# Altium schematic symbol library ESP32_SCH.SchLib: 50 symbols (part 1 of 2)
Pins are listed as number, name and electrical type; pins without a type are passive.

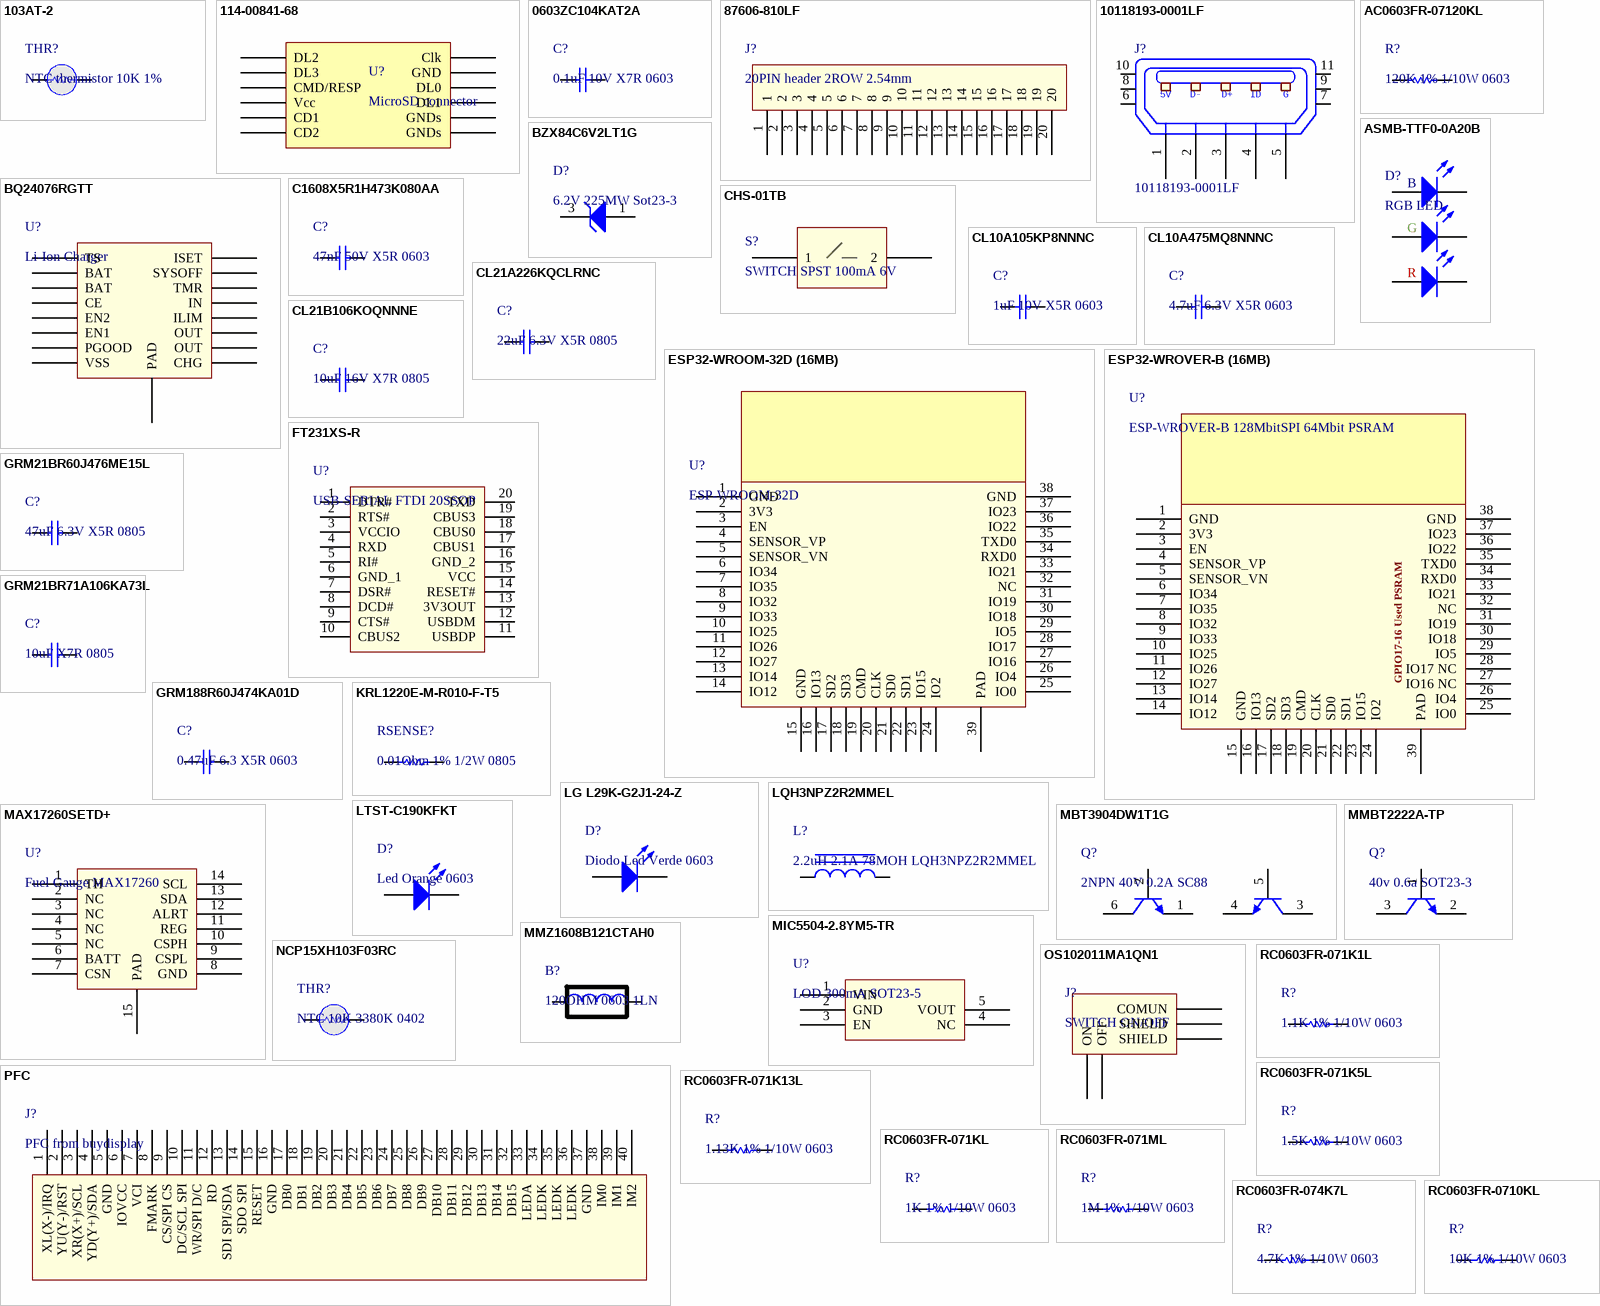
[diagram p0: symbols 103AT-2 to RC0603FR-0710KL]

## 103AT-2
designator THR?, comment NTC thermistor 10K 1%
Termistores NTC 10kohm 1%; Manufacturer: Semitec; Manufacturer Part Number: 103AT-2; Altura: 2.4 mm; Longitud: 17 mm; Empaquetado: Bulk; Resistencia: 10 kOhms; Serie: AT; Estilo de terminación: Radial; Anchura: 3.7 mm; CNHTS: 8533400000; Espaciado del plomo: 2.54 mm; Temperatura operativa máxima: + 110 C; Temperatura operativa mínima: - 50 C; MXHTS: 85334002; Tipo de producto: NTC Thermistors; Cantidad estándar de paquetes: 200; Subcategoría: Thermistors; TARIC: 8533401000; Supplier 1: Mouser; RoHS: RoHS Compliant; Category: Termistores NTC; Stock 1: 43480; Pricing 1: 1=2.26, 10=2.07, 100=1.68, 200=0.755, 500=0.664, 1000=0.423, 2000=0.356, 5000=0.347, 10000=0.337 (EUR); Tolerancia: 1 %; Tipo: NTC; Marca: Semitec; HTS Code: 8533408070; Fabricante: Semitec; RoHS - Mouser: Y; Minimum Order Quantity: 1; Reeling: False; ComponentLink1URL: http://www.mouser.com/datasheet/2/362/semitec_atthermistor-1202913.pdf; ComponentLink1Description: http://www.mouser.com/datasheet/2/362/semitec_atthermistor-1202913.pdf; Supplier Part Number 1: 954-103AT-2
footprint 103AT2
pins: 1, 2

## 114-00841-68
designator U?, comment MicroSD connector
CONN MICRO SD CARD PUSH-PULL R/A; Manufacturer: Amphenol Commercial Products; Manufacturer Part Number: 114-00841-68; Card Type: Secure Digital - microSD™; Number of Positions: 10 (8 + 2); Insertion, Removal Method: Push In, Pull Out; Supplier 1: Digi-Key; RoHS: RoHS Compliant; Category: Connectors, Interconnects; Stock 1: 16865; Pricing 1: 1=1.22, 10=1.1, 25=1.0332, 50=0.9882, 100=0.9432, 250=0.85344, 500=0.78606 (EUR); Packaging: Cut Tape (CT); Part Status: Active; Connector Type: Connector; Ejector Side: -; Mounting Type: Surface Mount, Right Angle; Features: Switch; Height Above Board: 0.061" (1.55mm); Mounting Feature: Normal, Standard - Top; Contact Finish: Gold; Contact Finish Thickness: 15.0µin (0.38µm); ComponentLink1URL: https://www.amphenolcanada.com/ProductSearch/drawings/AC/1140084168.pdf; ComponentLink1Description: https://www.amphenolcanada.com/ProductSearch/drawings/AC/1140084168.pdf; Supplier Part Number 1: 114-00841-68-1-ND
footprint 114-00841-68 (SD Connector)
pins: 1 DL2, 2 DL3, 3 CMD/RESP, 4 Vcc, 5 Clk, 6 GND, 7 DL0, 8 DL1, 9 CD1, 10 CD2, 11 GNDs, 12 GNDs

## 0603ZC104KAT2A
designator C?, comment 0.1uF 10V X7R 0603
CAP CER 0.1UF 10V X7R 0603; Manufacturer: AVX Corporation; Manufacturer Part Number: 0603ZC104KAT2A; Tolerance: ±10%; Notification: Current market demand for these product types have resulted in fluctuating and extending lead times. Lead times may differ.; Supplier 1: Digi-Key; RoHS: RoHS Compliant; Category: Capacitors; Stock 1: 40000; Pricing 1: 1=0.13, 10=0.094, 100=0.0443, 500=0.03104, 1000=0.0257 (GBP); Packaging: Cut Tape (CT); Part Status: Active; Voltage - Rated: 10V; Temperature Coefficient: X7R; Operating Temperature: -55°C ~ 125°C; Features: -; Ratings: -; Applications: General Purpose; Failure Rate: -; Mounting Type: Surface Mount, MLCC; Package / Case: 0603 (1608 Metric); Size / Dimension: 0.063" L x 0.032" W (1.60mm x 0.81mm); Height - Seated (Max): -; Thickness (Max): 0.035" (0.90mm); Lead Spacing: -; Lead Style: -; ComponentLink1URL: http://datasheets.avx.com/X7RDielectric.pdf; ComponentLink1Description: http://datasheets.avx.com/X7RDielectric.pdf; Supplier Part Number 1: 478-7939-1-ND
footprint C 0603/1608
pins: 1, 2

## 87606-810LF
designator J?, comment 20PIN header 2ROW 2.54mm
CONN RCPT 20POS 0.1 GOLD PCB; Manufacturer: Amphenol ICC (FCI); Manufacturer Part Number: 87606-810LF; Connector Type: Receptacle; Style: Board to Board; Number of Positions: 20; Number of Positions Loaded: All; Pitch - Mating: 0.100" (2.54mm); Contact Length - Post: 0.114" (2.90mm); Material Flammability Rating: UL94 V-0; Supplier 1: Digi-Key; RoHS: RoHS Compliant; Category: Connectors, Interconnects; Stock 1: 3223; Pricing 1: 1=0.98, 23=0.86826, 115=0.74896, 506=0.61281, 1012=0.54472, 5014=0.47663, 10005=0.4528 (GBP); Packaging: Tube; Part Status: Active; Contact Type: Female Socket; Row Spacing - Mating: 0.100" (2.54mm); Mounting Type: Through Hole; Termination: Solder; Fastening Type: Push-Pull; Contact Finish - Mating: Gold; Contact Finish Thickness - Mating: 15.0µin (0.38µm); Insulation Color: Blue; Insulation Height: 0.335" (8.51mm); Operating Temperature: -; Contact Finish - Post: Tin; Mated Stacking Heights: -; Ingress Protection: -; Features: -; Current Rating: -; Voltage Rating: -; Applications: Automotive, General Purpose, Industrial, Telecommunications; Insulation Material: Thermoplastic, Glass Filled; Contact Shape: Square; Contact Material: Phosphor Bronze; Contact Finish Thickness - Post: 78.7µin (2.00µm); ComponentLink1URL: https://cdn.amphenol-icc.com/media/wysiwyg/files/drawing/87606.pdf; ComponentLink1Description: https://cdn.amphenol-icc.com/media/wysiwyg/files/drawing/87606.pdf; Supplier Part Number 1: 609-5148-ND
footprint Header 10x2 254mm
pins: 1, 2, 3, 4, 5, 6, 7, 8, 9, 10, 11, 12, 13, 14, 15, 16, 17, 18, 19, 20

## 10118193-0001LF
designator J?
CONN USB MICRO B RECPT SMT R/A; Manufacturer: FCI; Connector Type: USB - micro B; Number of Contacts: 5; Gender: Receptacle; Specifications: USB 2.0; .Creator: MM; .Checked PCB: RF; Supplier 1: Digi-Key; Manufacturer Part Number: 10118193-0001LF; RoHS: RoHS Compliant; Category: Connectors, Interconnects; Stock 1: 28642; Pricing 1: 1=0.46, 10=0.433, 25=0.3712, 50=0.3156, 100=0.3032, 250=0.27224, 500=0.25988 (USD); Packaging: Cut Tape (CT); Mounting Type: Surface Mount, Right Angle, Horizontal; Features: Shielded, Solder Retention; Ingress Protection: -; ComponentLink1URL: http://portal.fciconnect.com/Comergent//fci/drawing/10118193.pdf; ComponentLink1Description: http://portal.fciconnect.com/Comergent//fci/drawing/10118193.pdf; Supplier Part Number 1: 609-4616-1-ND; .Checked SCH: MM
footprint 10118193
pins: 1 P1, 2 P2, 3 P3, 4 P4, 5 P5, 6, 7, 8, 9, 10, 11
text: 5V; D-; D+; ID; G

## AC0603FR-07120KL
designator R?, comment 120K 1% 1/10W 0603
RES SMD 120K OHM 1% 1/10W 0603; Manufacturer: Yageo; Manufacturer Part Number: AC0603FR-07120KL; Power (Watts): 0.1W, 1/10W; Temperature Coefficient: ±100ppm/°C; Supplier 1: Digi-Key; RoHS: RoHS Compliant; Category: Resistors; Stock 1: 51886; Pricing 1: 1=0.08, 10=0.023, 100=0.0093, 1000=0.00416, 2500=0.00361 (GBP); Packaging: Cut Tape (CT); Part Status: Active; Tolerance: ±1%; Composition: Thick Film; Features: Automotive AEC-Q200, Moisture Resistant; Operating Temperature: -55°C ~ 155°C; Package / Case: 0603 (1608 Metric); Supplier Device Package: 0603; Size / Dimension: 0.063" L x 0.031" W (1.60mm x 0.80mm); Height - Seated (Max): 0.022" (0.55mm); Failure Rate: -; ComponentLink1URL: http://www.yageo.com/NewPortal/yageodocoutput?fileName=/pdf/R-Chip/PYu-AC_51_RoHS_L_6.pdf; ComponentLink1Description: http://www.yageo.com/NewPortal/yageodocoutput?fileName=/pdf/R-Chip/PYu-AC_51_RoHS_L_6.pdf; Supplier Part Number 1: YAG3562CT-ND
footprint R 0603/1608
pins: 1, 2

## ASMB-TTF0-0A20B
designator D?, comment RGB LED
LED RGB DIFFUSED 6PLCC SMD; Manufacturer: Broadcom Avago; Manufacturer Part Number: ASMB-TTF0-0A20B; Supplier 1: Mouser; Stock 1: 76070; Pricing 1: 1=0.32, 10=0.275, 50=0.275, 100=0.182, 1000=0.134, 10000=0.115 (USD); Supplier Part Number 1: 630-ASMB-TTF0-0A20B
footprint PLCC-6
pins: 1 A, 2 K, 3 A, 4 K, 5 A, 6 K
text: B; G; R

## BQ24076RGTT
designator U?, comment Li-Ion Charger
LI-ION BATTERY CHARGER AND POWER; Supplier 1: Digi-Key; Supplier Part Number 1: 296-47528-6-ND
footprint VQFN16 (4x4mm) (QFN, 16-Leads, Body 4,00x4,00mm,)
pins: 1 TS, 2 BAT, 3 BAT, 4 CE, 5 EN2, 6 EN1, 7 PGOOD, 8 VSS, 9 CHG, 10 OUT, 11 OUT, 12 ILIM, 13 IN, 14 TMR, 15 SYSOFF, 16 ISET, 17 PAD

## BZX84C6V2LT1G
designator D?, comment 6.2V 225MW Sot23-3
DIODE ZENER 6.2V 225MW SOT23-3; Manufacturer: ON Semiconductor; Manufacturer Part Number: BZX84C6V2LT1G; Tolerance: ±6%; Supplier 1: Digi-Key; RoHS: RoHS Compliant; Category: Discrete Semiconductor Products; Stock 1: 133999; Pricing 1: 1=0.12, 10=0.106, 100=0.0578, 500=0.03558, 1000=0.02426 (GBP); Packaging: Cut Tape (CT); Part Status: Active; Operating Temperature: -65°C ~ 150°C (TJ); Mounting Type: Surface Mount; Package / Case: TO-236-3, SC-59, SOT-23-3; Supplier Device Package: SOT-23-3 (TO-236); Base Part Number: BZX84C6V2; ComponentLink1URL: https://www.onsemi.com/pub/Collateral/BZX84C2V4LT1-D.PDF; ComponentLink1Description: https://www.onsemi.com/pub/Collateral/BZX84C2V4LT1-D.PDF; Supplier Part Number 1: BZX84C6V2LT1GOSCT-ND
footprint SOT-23-3 (SOT23, 3-Leads, Body 2.92x1.3mm, Pitch 0.95mm)
pins: 1 A, 3 K

## C1608X5R1H473K080AA
designator C?, comment 47nF 50V X5R 0603
CAP CER 0.047UF 50V X5R 0603; Manufacturer: TDK Corporation; Manufacturer Part Number: C1608X5R1H473K080AA; Tolerance: ±10%; Notification: Current market demand for these product types have resulted in fluctuating and extending lead times. Lead times may differ.; Supplier 1: Digi-Key; RoHS: RoHS Compliant; Category: Capacitors; Stock 1: 247; Pricing 1: 1=0.08, 10=0.058, 100=0.026, 500=0.01862, 1000=0.01463 (GBP); Packaging: Cut Tape (CT); Part Status: Not For New Designs; Voltage - Rated: 50V; Temperature Coefficient: X5R; Operating Temperature: -55°C ~ 85°C; Features: Low ESL; Ratings: -; Applications: General Purpose; Failure Rate: -; Mounting Type: Surface Mount, MLCC; Package / Case: 0603 (1608 Metric); Size / Dimension: 0.063" L x 0.031" W (1.60mm x 0.80mm); Height - Seated (Max): -; Thickness (Max): 0.035" (0.90mm); Lead Spacing: -; Lead Style: -; ComponentLink1URL: https://product.tdk.com/info/en/catalog/datasheets/mlcc_commercial_general_en.pdf; ComponentLink1Description: https://product.tdk.com/info/en/catalog/datasheets/mlcc_commercial_general_en.pdf; Supplier Part Number 1: 445-14155-1-ND
footprint C 0603/1608
pins: 1, 2

## CHS-01TB
designator S?, comment SWITCH SPST 100mA 6V
SWITCH SLIDE DIP SPST 100MA 6V; Supplier 1: Digi-Key; Supplier Part Number 1: 563-1004-6-ND
footprint CHS-01TB
pins: 1, 2

## CL10A105KP8NNNC
designator C?, comment 1uF 10V X5R 0603
CAP CER 1UF 10V X5R 0603; Manufacturer: Samsung Electro-Mechanics; Manufacturer Part Number: CL10A105KP8NNNC; Tolerance: ±10%; Notification: Current market demand for these product types have resulted in fluctuating and extending lead times. Lead times may differ.; Supplier 1: Digi-Key; RoHS: RoHS Compliant; Category: Capacitors; Stock 1: 40000; Pricing 1: 1=0.08, 10=0.03, 100=0.0132, 500=0.00942, 1000=0.00741 (GBP); Packaging: Cut Tape (CT); Part Status: Active; Voltage - Rated: 10V; Temperature Coefficient: X5R; Operating Temperature: -55°C ~ 85°C; Features: -; Ratings: -; Applications: General Purpose; Mounting Type: Surface Mount, MLCC; Package / Case: 0603 (1608 Metric); Size / Dimension: 0.063" L x 0.031" W (1.60mm x 0.80mm); Height - Seated (Max): -; Thickness (Max): 0.035" (0.90mm); Lead Spacing: -; Lead Style: -; ComponentLink1URL: http://www.samsungsem.com/kr/support/product-search/mlcc/CL10A105KP8NNNC.jsp; ComponentLink1Description: http://www.samsungsem.com/kr/support/product-search/mlcc/CL10A105KP8NNNC.jsp; Supplier Part Number 1: 1276-1182-1-ND
footprint C 0603/1608
pins: 1, 2

## CL10A475MQ8NNNC
designator C?, comment 4.7uF 6.3V X5R 0603
CAP CER 4.7UF 6.3V X5R 0603; Manufacturer: Samsung Electro-Mechanics; Manufacturer Part Number: CL10A475MQ8NNNC; Tolerance: ±20%; Notification: Current market demand for these product types have resulted in fluctuating and extending lead times. Lead times may differ.; Supplier 1: Digi-Key; RoHS: RoHS Compliant; Category: Capacitors; Stock 1: 40000; Pricing 1: 1=0.08, 10=0.051, 100=0.0228, 500=0.01632, 1000=0.01282 (GBP); Packaging: Cut Tape (CT); Part Status: Active; Voltage - Rated: 6.3V; Temperature Coefficient: X5R; Operating Temperature: -55°C ~ 85°C; Features: -; Ratings: -; Applications: General Purpose; Mounting Type: Surface Mount, MLCC; Package / Case: 0603 (1608 Metric); Size / Dimension: 0.063" L x 0.031" W (1.60mm x 0.80mm); Height - Seated (Max): -; Thickness (Max): 0.035" (0.90mm); Lead Spacing: -; Lead Style: -; ComponentLink1URL: http://www.samsungsem.com/kr/support/product-search/mlcc/CL10A475MQ8NNNC.jsp; ComponentLink1Description: http://www.samsungsem.com/kr/support/product-search/mlcc/CL10A475MQ8NNNC.jsp; Supplier Part Number 1: 1276-1907-1-ND
footprint C 0603/1608
pins: 1, 2

## CL21A226KQCLRNC
designator C?, comment 22uF 6.3V X5R 0805
CAP CER 22UF 6.3V X5R 0805; Manufacturer: Samsung Electro-Mechanics; Manufacturer Part Number: CL21A226KQCLRNC; Tolerance: ±10%; Notification: Current market demand for these product types have resulted in fluctuating and extending lead times. Lead times may differ.; Supplier 1: Digi-Key; RoHS: RoHS Compliant; Category: Capacitors; Stock 1: 1225; Pricing 1: 1=0.13, 10=0.098, 100=0.0459, 500=0.03216, 1000=0.02663 (GBP); Packaging: Cut Tape (CT); Part Status: Active; Voltage - Rated: 6.3V; Temperature Coefficient: X5R; Operating Temperature: -55°C ~ 85°C; Features: Low Profile; Ratings: -; Applications: General Purpose; Mounting Type: Surface Mount, MLCC; Package / Case: 0805 (2012 Metric); Size / Dimension: 0.079" L x 0.049" W (2.00mm x 1.25mm); Height - Seated (Max): -; Thickness (Max): 0.037" (0.95mm); Lead Spacing: -; Lead Style: -; ComponentLink1URL: http://www.samsungsem.com/kr/support/product-search/mlcc/CL21A226KQCLRNC.jsp; ComponentLink1Description: http://www.samsungsem.com/kr/support/product-search/mlcc/CL21A226KQCLRNC.jsp; Supplier Part Number 1: 1276-6687-1-ND
footprint C 0805/2012
pins: 1, 2

## CL21B106KOQNNNE
designator C?, comment 10uF 16V X7R 0805
CAP CER 10UF 16V X7R 0805; Manufacturer: Samsung Electro-Mechanics; Manufacturer Part Number: CL21B106KOQNNNE; Tolerance: ±10%; Notification: Current market demand for these product types have resulted in fluctuating and extending lead times. Lead times may differ.; Supplier 1: Digi-Key; RoHS: RoHS Compliant; Category: Capacitors; Stock 1: 20000; Pricing 1: 1=0.24, 10=0.163, 100=0.0923, 500=0.06514, 1000=0.057 (GBP); Packaging: Cut Tape (CT); Part Status: Active; Voltage - Rated: 16V; Temperature Coefficient: X7R; Operating Temperature: -55°C ~ 125°C; Features: -; Ratings: -; Applications: General Purpose; Mounting Type: Surface Mount, MLCC; Package / Case: 0805 (2012 Metric); Size / Dimension: 0.079" L x 0.049" W (2.00mm x 1.25mm); Height - Seated (Max): -; Thickness (Max): 0.055" (1.40mm); Lead Spacing: -; Lead Style: -; ComponentLink1URL: http://www.samsungsem.com/kr/support/product-search/mlcc/CL21B106KOQNNNE.jsp; ComponentLink1Description: http://www.samsungsem.com/kr/support/product-search/mlcc/CL21B106KOQNNNE.jsp; Supplier Part Number 1: 1276-2872-1-ND
footprint C 0805/2012
pins: 1, 2

## ESP32-WROOM-32D (16MB)
designator U?, comment ESP-WROOM-32D
WIFI MODULE 128MBITS SPI FLASH; Manufacturer: Espressif Systems; Manufacturer Part Number: ESP32-WROOM-32D (16MB); Utilized IC / Part: ESP32-D0WD; RF Family/Standard: Bluetooth, WiFi; Protocol: 802.11b/g/n, Bluetooth v4.2 + EDR, Class 1, 2 and 3; Modulation: CCK, DSSS, OFDM; Frequency: 2.4GHz ~ 2.5GHz; Data Rate: 150Mbps; Power - Output: 20.5dBm; Sensitivity: -98dBm; Serial Interfaces: GPIO, I²C, I²S, PWM, SDIO, SPI, UART; Antenna Type: Integrated, Trace; Memory Size: 448kB ROM, 536kB SRAM; Voltage - Supply: 2.7 V ~ 3.6 V; Supplier 1: Digi-Key; RoHS: RoHS Compliant; Category: RF/IF and RFID; Stock 1: 450; Pricing 1: 1=6.14, 10=5.634, 25=5.122, 100=4.6099, 250=4.22572 (GBP); Packaging: Digi-Reel®; Part Status: Active; Current - Receiving: -; Current - Transmitting: -; Mounting Type: Surface Mount; Operating Temperature: -40°C ~ 85°C; Package / Case: 38-SMD Module; ComponentLink1URL: https://www.espressif.com/sites/default/files/documentation/esp32-wroom-32d_esp32-wroom-32u_datasheet_en.pdf; ComponentLink1Description: https://www.espressif.com/sites/default/files/documentation/esp32-wroom-32d_esp32-wroom-32u_datasheet_en.pdf; Supplier Part Number 1: 1904-1025-6-ND
footprint ESP32WROOM32D
pins: 1 GND, 2 3V3, 3 EN, 4 SENSOR_VP, 5 SENSOR_VN, 6 IO34, 7 IO35, 8 IO32, 9 IO33, 10 IO25, 11 IO26, 12 IO27, 13 IO14, 14 IO12, 15 GND, 16 IO13, 17 SD2, 18 SD3, 19 CMD, 20 CLK, 21 SD0, 22 SD1, 23 IO15, 24 IO2, 25 IO0, 26 IO4, 27 IO16, 28 IO17, 29 IO5, 30 IO18, 31 IO19, 32 NC, 33 IO21, 34 RXD0, 35 TXD0, 36 IO22, 37 IO23, 38 GND, 39 PAD

## ESP32-WROVER-B (16MB)
designator U?, comment ESP-WROVER-B 128MbitSPI 64Mbit PSRAM
Módulos WiFi (802.11) SMD Module, ESP32-D0WD, 64Mbits PSRAM, 128Mbits SPI flash, PCB Antenna; Manufacturer: Espressif Systems; Manufacturer Part Number: ESP32-WROVER-B (16MB); Frecuencia de datos: 150 Mb/s; Frecuencia: 2.4 GHz to 2.5 GHz; Energía de salida: 18.5 dBm; Serie: ESP32; Tipo de interfaz: Serial; CNHTS: 8517709000; Fabricante: Espressif; Temperatura operativa máxima: + 65 C; Temperatura operativa mínima: - 40 C; Voltaje operativo de suministro: 2.7 V to 3.6 V; Tipo de producto: WiFi Modules; Protocolo aceptado: 802.11 b/g/n, Bluetooth; Cantidad estándar de paquetes: 650; Subcategoría: Wireless & RF Modules; Product Status: New Product; Supplier 1: Mouser; Category: Módulos WiFi (802.11); Stock 1: 0; Pricing 1: 1=4.37 (EUR); Dimensiones: 18 mm x 31.4 mm x 3.3 mm; Marca: Espressif Systems; HTS Code: 8517620090; Minimum Order Quantity: 1; Reeling: False; ComponentLink1URL: http://www.mouser.com/datasheet/2/891/esp32-wrover-b_datasheet_en-1384674.pdf; ComponentLink1Description: http://www.mouser.com/datasheet/2/891/esp32-wrover-b_datasheet_en-1384674.pdf; Supplier Part Number 1: 356-ESP32-WROB(16MB)
footprint XCVR_ESP32-WROVER
pins: 1 GND, 2 3V3, 3 EN, 4 SENSOR_VP, 5 SENSOR_VN, 6 IO34, 7 IO35, 8 IO32, 9 IO33, 10 IO25, 11 IO26, 12 IO27, 13 IO14, 14 IO12, 15 GND, 16 IO13, 17 SD2, 18 SD3, 19 CMD, 20 CLK, 21 SD0, 22 SD1, 23 IO15, 24 IO2, 25 IO0, 26 IO4, 27 IO16 NC, 28 IO17 NC, 29 IO5, 30 IO18, 31 IO19, 32 NC, 33 IO21, 34 RXD0, 35 TXD0, 36 IO22, 37 IO23, 38 GND, 39 PAD
text: GPIO17-16 Used PSRAM

## FT231XS-R
designator U?, comment USB-SERIAL FTDI 20SSOP
IC USB SERIAL FULL UART 20SSOP; Manufacturer: FTDI, Future Technology Devices International Ltd; Manufacturer Part Number: FT231XS-R; Function: Bridge, USB to UART; Standards: USB 2.0; Voltage - Supply: 3.3 V ~ 5 V; Current - Supply: 8mA; Supplier 1: Digi-Key; RoHS: RoHS Compliant; Category: Integrated Circuits (ICs); Stock 1: 37852; Pricing 1: 1=1.67, 25=1.6128, 100=1.5579, 250=1.40052, 500=1.2589 (GBP); Packaging: Cut Tape (CT); Part Status: Active; Protocol: USB; Interface: UART; Operating Temperature: -40°C ~ 85°C; Package / Case: 20-SSOP (0.154", 3.90mm Width); Supplier Device Package: 20-SSOP; ComponentLink1URL: http://www.ftdichip.com/Support/Documents/DataSheets/ICs/DS_FT231X.pdf; ComponentLink1Description: http://www.ftdichip.com/Support/Documents/DataSheets/ICs/DS_FT231X.pdf; Supplier Part Number 1: 768-1129-1-ND
footprint SOP64P599X175-20N
pins: 1 DTR#, 2 RTS#, 3 VCCIO (power), 4 RXD, 5 RI#, 6 GND_1, 7 DSR#, 8 DCD#, 9 CTS#, 10 CBUS2, 11 USBDP, 12 USBDM, 13 3V3OUT, 14 RESET#, 15 VCC (power), 16 GND_2, 17 CBUS1, 18 CBUS0, 19 CBUS3, 20 TXD

## GRM21BR60J476ME15L
designator C?, comment 47uF 6.3V X5R 0805
CAP CER 47UF 6.3V X5R 0805; Manufacturer: Murata Electronics North America; Manufacturer Part Number: GRM21BR60J476ME15L; Tolerance: ±20%; Notification: Current market demand for these product types have resulted in fluctuating and extending lead times. Lead times may differ.; Supplier 1: Digi-Key; RoHS: RoHS Compliant; Category: Capacitors; Stock 1: 30000; Pricing 1: 1=0.38, 10=0.267, 100=0.1759, 500=0.1303, 1000=0.11075 (GBP); Packaging: Cut Tape (CT); Part Status: Active; Voltage - Rated: 6.3V; Temperature Coefficient: X5R; Operating Temperature: -55°C ~ 85°C; Features: -; Ratings: -; Applications: General Purpose; Mounting Type: Surface Mount, MLCC; Package / Case: 0805 (2012 Metric); Size / Dimension: 0.079" L x 0.049" W (2.00mm x 1.25mm); Height - Seated (Max): -; Thickness (Max): 0.057" (1.45mm); Lead Spacing: -; Lead Style: -; ComponentLink1URL: http://search.murata.co.jp/Ceramy/image/img/A01X/G101/ENG/GRM21BR60J476ME15-01.pdf; ComponentLink1Description: http://search.murata.co.jp/Ceramy/image/img/A01X/G101/ENG/GRM21BR60J476ME15-01.pdf; Supplier Part Number 1: 490-9960-1-ND
footprint C 0805/2012
pins: 1, 2

## GRM21BR71A106KA73L
designator C?, comment 10uF X7R 0805
CAP CER 10UF 10V X7R 0805; Manufacturer: Murata Electronics North America; Manufacturer Part Number: GRM21BR71A106KA73L; Tolerance: ±10%; Notification: Current market demand for these product types have resulted in fluctuating and extending lead times. Lead times may differ.; Supplier 1: Digi-Key; RoHS: RoHS Compliant; Category: Capacitors; Stock 1: 30000; Pricing 1: 1=0.18, 10=0.126, 100=0.0637, 500=0.04352, 1000=0.03851 (GBP); Packaging: Cut Tape (CT); Part Status: Not For New Designs; Voltage - Rated: 10V; Temperature Coefficient: X7R; Operating Temperature: -55°C ~ 125°C; Features: -; Ratings: -; Applications: General Purpose; Mounting Type: Surface Mount, MLCC; Package / Case: 0805 (2012 Metric); Size / Dimension: 0.079" L x 0.049" W (2.00mm x 1.25mm); Height - Seated (Max): -; Thickness (Max): 0.055" (1.40mm); Lead Spacing: -; Lead Style: -; ComponentLink1URL: http://search.murata.co.jp/Ceramy/image/img/A01X/G101/ENG/GRM21BR71A106KA73-01.pdf; ComponentLink1Description: http://search.murata.co.jp/Ceramy/image/img/A01X/G101/ENG/GRM21BR71A106KA73-01.pdf; Supplier Part Number 1: 490-10516-1-ND
footprint C 0805/2012
pins: 1, 2

## GRM188R60J474KA01D
designator C?, comment 0.47uF 6.3 X5R 0603
CAP CER 0.47UF 6.3V X5R 0603; Manufacturer: Murata Electronics North America; Manufacturer Part Number: GRM188R60J474KA01D; Tolerance: ±10%; Notification: Current market demand for these product types have resulted in fluctuating and extending lead times. Lead times may differ.; Supplier 1: Digi-Key; RoHS: RoHS Compliant; Category: Capacitors; Stock 1: 40000; Pricing 1: 1=0.13, 10=0.092, 100=0.0467, 500=0.032, 1000=0.0283 (GBP); Packaging: Cut Tape (CT); Part Status: Not For New Designs; Voltage - Rated: 6.3V; Temperature Coefficient: X5R; Operating Temperature: -55°C ~ 85°C; Features: -; Ratings: -; Applications: General Purpose; Mounting Type: Surface Mount, MLCC; Package / Case: 0603 (1608 Metric); Size / Dimension: 0.063" L x 0.031" W (1.60mm x 0.80mm); Height - Seated (Max): -; Thickness (Max): 0.035" (0.90mm); Lead Spacing: -; Lead Style: -; ComponentLink1URL: https://www.murata.com/~/media/webrenewal/support/library/catalog/products/capacitor/mlcc/c02e.ashx?la=en-us; ComponentLink1Description: https://www.murata.com/~/media/webrenewal/support/library/catalog/products/capacitor/mlcc/c02e.ashx?la=en-us; Supplier Part Number 1: 490-1548-1-ND
footprint C 0603/1608
pins: 1, 2

## KRL1220E-M-R010-F-T5
designator RSENSE?, comment 0.01Ohm 1% 1/2W 0805
RES 0.01 OHM 1% 1/2W 0805; Manufacturer: Susumu; Manufacturer Part Number: KRL1220E-M-R010-F-T5; Power (Watts): 0.5W, 1/2W; Temperature Coefficient: ±50ppm/°C; Supplier 1: Digi-Key; RoHS: RoHS Compliant; Category: Resistors; Stock 1: 165868; Pricing 1: 1=0.46, 10=0.352, 25=0.268, 50=0.1992, 100=0.1481, 250=0.12512, 500=0.10724, 1000=0.0817 (GBP); Packaging: Cut Tape (CT); Part Status: Active; Tolerance: ±1%; Composition: Metal Foil; Features: Automotive AEC-Q200, Current Sense; Operating Temperature: -55°C ~ 155°C; Package / Case: 0805 (2012 Metric); Supplier Device Package: 0805; Size / Dimension: 0.079" L x 0.049" W (2.00mm x 1.25mm); Height - Seated (Max): 0.028" (0.70mm); Failure Rate: -; ComponentLink1URL: http://www.susumu.co.jp/common/pdf/n_catalog_partition09_en.pdf; ComponentLink1Description: http://www.susumu.co.jp/common/pdf/n_catalog_partition09_en.pdf; Supplier Part Number 1: 408-1544-1-ND
footprint R 0805/2012 Rsense
pins: 1, 2

## LG L29K-G2J1-24-Z
designator D?, comment Diodo Led Verde 0603
LED GREEN DIFFUSED 0603 SMD; Manufacturer: OSRAM Opto Semiconductors Inc.; Manufacturer Part Number: LG L29K-G2J1-24-Z; Lens Color: White; Millicandela Rating: 3.92mcd; Lens Style/Size: Rectangle with Flat Top, 1.30mm x 0.80mm; Voltage - Forward (Vf) (Typ): 1.7V; Current - Test: 2mA; Viewing Angle: 160°; Wavelength - Dominant: 570nm; Wavelength - Peak: 572nm; Supplier 1: Digi-Key; RoHS: RoHS Compliant; Category: Optoelectronics; Stock 1: 595550; Pricing 1: 1=0.48, 10=0.343, 25=0.28, 100=0.2238, 250=0.18888, 500=0.16088, 1000=0.1259, 2500=0.11541 (EUR); Packaging: Cut Tape (CT); Part Status: Active; Color: Green; Lens Transparency: Diffused; Mounting Type: Surface Mount; Features: -; Package / Case: 0603 (1608 Metric); Supplier Device Package: 0603; Size / Dimension: 1.70mm L x 0.80mm W; Height (Max): 0.65mm; ComponentLink1URL: https://dammedia.osram.info/media/resource/hires/osram-dam-2493945/LG%20L29K.pdf; ComponentLink1Description: https://dammedia.osram.info/media/resource/hires/osram-dam-2493945/LG%20L29K.pdf; Supplier Part Number 1: 475-2709-1-ND
footprint LED 0603/1608
pins: 1 A, 2 K

## LQH3NPZ2R2MMEL
designator L?, comment 2.2uH 2.1A 78MOH LQH3NPZ2R2MMEL
FIXED IND 2.2UH 2.1A 78 MOHM; Manufacturer: Murata Electronics North America; Type: Wirewound; Material - Core: Ferrite; Tolerance: ±20%; Current - Saturation: 1.8A; Shielding: Shielded; DC Resistance (DCR): 78 mOhm Max; Frequency - Self Resonant: 60MHz; Supplier 1: Digi-Key; Manufacturer Part Number: LQH3NPZ2R2MMEL; RoHS: RoHS Compliant; Category: Inductors, Coils, Chokes; Stock 1: 17109; Pricing 1: 1=0.32, 10=0.29, 100=0.1991, 500=0.1701, 1000=0.13029 (GBP); Packaging: Cut Tape (CT); Part Status: Active; Ratings: AEC-Q200; Operating Temperature: -40°C ~ 85°C; Mounting Type: Surface Mount; Package / Case: 1212 (3030 Metric); Supplier Device Package: 1212 (3030 Metric); Size / Dimension: 0.118" L x 0.118" W (3.00mm x 3.00mm); Height - Seated (Max): 0.059" (1.50mm); ComponentLink1URL: http://search.murata.co.jp/Ceramy/image/img/P02/JELF243A-9140.pdf; ComponentLink1Description: http://search.murata.co.jp/Ceramy/image/img/P02/JELF243A-9140.pdf; Supplier Part Number 1: 490-15973-1-ND
footprint LQH3NPZ2R2MMEL
pins: 1, 2

## LTST-C190KFKT
designator D?, comment Led Orange 0603
LED ORANGE CLEAR CHIP SMD; Manufacturer: Lite-On Inc.; Manufacturer Part Number: LTST-C190KFKT; Configuration: Standard; Lens Color: Colorless; Millicandela Rating: 90mcd; Lens Style: Rectangle with Flat Top; Lens Size: 1.10mm x 0.80mm; Voltage - Forward (Vf) (Typ): 2V; Current - Test: 20mA; Viewing Angle: 130°; Wavelength - Dominant: 605nm; Wavelength - Peak: 611nm; Supplier 1: Digi-Key; RoHS: RoHS Compliant; Category: Optoelectronics; Stock 1: 169559; Pricing 1: 1=0.2, 10=0.144, 25=0.106, 100=0.0758, 250=0.05148, 500=0.04544, 1000=0.03559 (GBP); Packaging: Cut Tape (CT); Part Status: Active; Color: Orange; Lens Transparency: Clear; Mounting Type: Surface Mount; Features: -; Package / Case: 0603 (1608 Metric); Supplier Device Package: Chip LED; Size / Dimension: 1.60mm L x 0.80mm W; Height (Max): 0.90mm; ComponentLink1URL: http://optoelectronics.liteon.com/upload/download/DS-22-99-0186/LTST-C190KFKT.PDF; ComponentLink1Description: http://optoelectronics.liteon.com/upload/download/DS-22-99-0186/LTST-C190KFKT.PDF; Supplier Part Number 1: 160-1434-1-ND
footprint LED 0603/1608
pins: 1 A, 2 K

## MAX17260SETD+
designator U?, comment Fuel Gauge MAX17260
Gestión de baterías 5.1 A 1-Cell Fuel Gauge with ModelGauge m5 EZ and Optional High-SideCurrent Sensing; Manufacturer: Maxim Integrated; Manufacturer Part Number: MAX17260SETD+; Empaquetado / Estuche: TDFN-EP-14; Producto: Fuel Gauges; Estilo de montaje: SMD/SMT; Tipo de batería: Li+, LiFePO4; CNHTS: 8542319000; Kit de desarrollo: MAX17260XEVKIT#; Temperatura operativa máxima: + 85 C; Temperatura operativa mínima: - 40 C; Corriente de suministro operativa: 15 uA; Voltaje operativo de suministro: 2.3 V to 4.9 V; Tipo de producto: Battery Management; Cantidad estándar de paquetes: 100; Subcategoría: PMIC - Power Management ICs; Product Status: New Product; Supplier 1: Mouser; RoHS: RoHS Compliant; Category: Gestión de baterías; Stock 1: 287; Pricing 1: 1=1.96, 25=1.34, 50=1.09, 250=1.07, 1000=1.01 (EUR); Serie: MAX17260; Marca: Maxim Integrated; HTS Code: 8542390001; Fabricante: Maxim Integrated; RoHS - Mouser: Y; Minimum Order Quantity: 1; Reeling: False; ComponentLink1URL: http://www.mouser.com/datasheet/2/256/MAX17260-1369516.pdf; ComponentLink1Description: http://www.mouser.com/datasheet/2/256/MAX17260-1369516.pdf; Supplier Part Number 1: 700-MAX17260SETD+
footprint TDFN14-1.7X2.3MM (T1433+2C Maxim code)
pins: 1 TH, 2 NC, 3 NC, 4 NC, 5 NC, 6 BATT, 7 CSN, 8 GND, 9 CSPL, 10 CSPH, 11 REG, 12 ALRT, 13 SDA, 14 SCL, 15 PAD

## MBT3904DW1T1G
designator Q?, comment 2NPN 40V 0.2A SC88
TRANS 2NPN 40V 0.2A SC88; Manufacturer: ON Semiconductor; Manufacturer Part Number: MBT3904DW1T1G; Transistor Type: 2 NPN (Dual); Current - Collector (Ic) (Max): 200mA; Vce Saturation (Max) @ Ib, Ic: 300mV @ 5mA, 50mA; DC Current Gain (hFE) (Min) @ Ic, Vce: 100 @ 10mA, 1V; Power - Max: 150mW; Frequency - Transition: 300MHz; Supplier 1: Digi-Key; RoHS: RoHS Compliant; Category: Discrete Semiconductor Products; Stock 1: 135425; Pricing 1: 1=0.17, 10=0.135, 100=0.0718, 500=0.0472, 1000=0.03211 (GBP); Packaging: Cut Tape (CT); Part Status: Active; Voltage - Collector Emitter Breakdown (Max): 40V; Current - Collector Cutoff (Max): -; Operating Temperature: -55°C ~ 150°C (TJ); Mounting Type: Surface Mount; Package / Case: 6-TSSOP, SC-88, SOT-363; Supplier Device Package: SC-88/SC70-6/SOT-363; Base Part Number: MBT3904D; ComponentLink1URL: http://www.onsemi.com/pub/Collateral/MBT3904DW1T1-D.PDF; ComponentLink1Description: http://www.onsemi.com/pub/Collateral/MBT3904DW1T1-D.PDF; Supplier Part Number 1: MBT3904DW1T1GOSCT-ND
footprint SOT-363 SC-88 (SOT23, 3-Leads, Body 2.92x1.3mm, Pitch 0.95mm)
pins: 1 E, 2 G, 3 C, 4 E, 5 B, 6 C

## MIC5504-2.8YM5-TR
designator U?, comment LOD 300mA SOT23-5
IC REG LINEAR 2.8V 300MA SOT23-5; Manufacturer: Microchip Technology; Manufacturer Part Number: MIC5504-2.8YM5-TR; Output Configuration: Positive; Output Type: Fixed; Voltage - Input (Max): 5.5V; Voltage Dropout (Max): 0.38V @ 300mA; PSRR: 60dB (1kHz); Control Features: Enable; Protection Features: Over Current, Over Temperature; Supplier 1: Digi-Key; RoHS: RoHS Compliant; Category: Integrated Circuits (ICs); Stock 1: 6266; Pricing 1: 1=0.09, 25=0.0732, 100=0.0648 (GBP); Packaging: Cut Tape (CT); Part Status: Active; Voltage - Output (Min/Fixed): 2.8V; Voltage - Output (Max): -; Current - Output: 300mA; Operating Temperature: -40°C ~ 125°C; Mounting Type: Surface Mount; Package / Case: SC-74A, SOT-753; Supplier Device Package: SOT-23-5; Base Part Number: MIC5504; ComponentLink1URL: http://www.microchip.com/mymicrochip/filehandler.aspx?ddocname=en580292; ComponentLink1Description: http://www.microchip.com/mymicrochip/filehandler.aspx?ddocname=en580292; Supplier Part Number 1: 576-4763-1-ND
footprint SOT-23-5 (SOT23, 3-Leads, Body 2.92x1.3mm, Pitch 0.95mm)
pins: 1 VIN, 2 GND, 3 EN, 4 NC, 5 VOUT

## MMBT2222A-TP
designator Q?, comment 40v 0.6a SOT23-3
TRANS NPN 40V 0.6A SOT23; Manufacturer: Micro Commercial Co; Manufacturer Part Number: MMBT2222A-TP; Vce Saturation (Max) @ Ib, Ic: 1V @ 50mA, 500mA; DC Current Gain (hFE) (Min) @ Ic, Vce: 100 @ 150mA, 10V; Frequency - Transition: 300MHz; Supplier 1: Digi-Key; RoHS: RoHS Compliant; Category: Discrete Semiconductor Products; Stock 1: 405364; Pricing 1: 1=0.12, 10=0.105, 25=0.0956, 100=0.0689, 250=0.0406, 500=0.0337, 1000=0.02297 (GBP); Packaging: Cut Tape (CT); Part Status: Active; Transistor Type: NPN; Current - Collector Cutoff (Max): -; Operating Temperature: -55°C ~ 150°C (TJ); Mounting Type: Surface Mount; Package / Case: TO-236-3, SC-59, SOT-23-3; Supplier Device Package: SOT-23; Base Part Number: MMBT2222A; ComponentLink1URL: http://www.mccsemi.com/up_pdf/MMBT2222A(SOT-23).pdf; ComponentLink1Description: http://www.mccsemi.com/up_pdf/MMBT2222A(SOT-23).pdf; Supplier Part Number 1: MMBT2222ATPMSCT-ND
footprint SOT-23-3 (SOT23, 3-Leads, Body 2.92x1.3mm, Pitch 0.95mm)
pins: 1 G, 2 E, 3 C

## MMZ1608B121CTAH0
designator B?, comment 120OHM 0603 1LN
FERRITE BEAD 120 OHM 0603 1LN; Manufacturer: TDK Corporation; Manufacturer Part Number: MMZ1608B121CTAH0; Filter Type: Signal Line; Current Rating (Max): 600mA; DC Resistance (DCR) (Max): 150 mOhm; Supplier 1: Digi-Key; RoHS: RoHS Compliant; Category: Filters; Stock 1: 139504; Pricing 1: 1=0.09, 10=0.062, 25=0.056, 50=0.0504, 100=0.0371, 250=0.02692, 500=0.02468, 1000=0.02132 (EUR); Packaging: Cut Tape (CT); Part Status: Active; Ratings: -; Operating Temperature: -55°C ~ 125°C; Package / Case: 0603 (1608 Metric); Mounting Type: Surface Mount; Height (Max): 0.030" (0.75mm); Size / Dimension: 0.063" L x 0.032" W (1.60mm x 0.80mm); ComponentLink1URL: https://product.tdk.com/info/en/catalog/datasheets/beads_commercial_signal_mmz1608_en.pdf; ComponentLink1Description: https://product.tdk.com/info/en/catalog/datasheets/beads_commercial_signal_mmz1608_en.pdf; Supplier Part Number 1: 445-2164-1-ND
footprint R 0603/1608
pins: 1, 2

## NCP15XH103F03RC
designator THR?, comment NTC 10K 3380K 0402
THERMISTOR NTC 10KOHM 3380K 0402; Manufacturer: Murata Electronics North America; Manufacturer Part Number: NCP15XH103F03RC; Resistance Tolerance: ±1%; B25/85: 3434K; B25/100: 3455K; Supplier 1: Digi-Key; RoHS: RoHS Compliant; Category: Sensors, Transducers; Stock 1: 432156; Pricing 1: 1=0.11, 5=0.106, 10=0.094, 25=0.0868, 50=0.0696, 100=0.0596, 500=0.05216, 1000=0.04471, 5000=0.03974 (GBP); Packaging: Cut Tape (CT); Part Status: Active; Resistance in Ohms @ 25°C: 10k; B Value Tolerance: ±1%; B0/50: -; B25/50: 3380K; B25/75: -; Operating Temperature: -40°C ~ 125°C; Length - Lead Wire: -; Mounting Type: Surface Mount; Package / Case: 0402 (1005 Metric); ComponentLink1URL: https://www.murata.com/en-us/api/pdfdownloadapi?cate=&partno=NCP15XH103F03RC; ComponentLink1Description: https://www.murata.com/en-us/api/pdfdownloadapi?cate=&partno=NCP15XH103F03RC; Supplier Part Number 1: 490-4801-1-ND
footprint R 0402/1005
pins: 1, 2

## OS102011MA1QN1
designator J?, comment SWITCH ON/OFF
SWITCH SLIDE SPDT 100MA 12V; Supplier 1: Digi-Key; Supplier Part Number 1: CKN9559-ND
footprint OS102011MA1QN1
pins: 1 ON, 2 COMUN, 3 OFF, 4 SHIELD, 5 SHIELD

## PFC
designator J?, comment PFC from buydisplay
https://www.buydisplay.com/default/40-pin-0-5mm-pitch-top-contact-zif-connector-fpc-connector
footprint 40pin 0.5pitch FPC
pins: 1 XL(X-)/IRQ, 2 YU(Y-)/RST, 3 XR(X+)/SCL, 4 YD(Y+)/SDA, 5 GND, 6 IOVCC, 7 VCI, 8 FMARK, 9 CS/SPI CS, 10 DC/SCL SPI, 11 WR/SPI D/C, 12 RD, 13 SDI SPI/SDA, 14 SDO SPI, 15 RESET, 16 GND, 17 DB0, 18 DB1, 19 DB2, 20 DB3, 21 DB4, 22 DB5, 23 DB6, 24 DB7, 25 DB8, 26 DB9, 27 DB10, 28 DB11, 29 DB12, 30 DB13, 31 DB14, 32 DB15, 33 LEDA, 34 LEDK, 35 LEDK, 36 LEDK, 37 GND, 38 IM0, 39 IM1, 40 IM2

## RC0603FR-071K1L
designator R?, comment 1.1K 1% 1/10W 0603
RES SMD 1.1K OHM 1% 1/10W 0603; Manufacturer: Yageo; Manufacturer Part Number: RC0603FR-071K1L; Power (Watts): 0.1W, 1/10W; Temperature Coefficient: ±100ppm/°C; Supplier 1: Digi-Key; RoHS: RoHS Compliant; Category: Resistors; Stock 1: 1778770; Pricing 1: 1=0.08, 10=0.019, 100=0.0076, 1000=0.00344, 2500=0.00298 (GBP); Packaging: Cut Tape (CT); Part Status: Active; Tolerance: ±1%; Composition: Thick Film; Features: Moisture Resistant; Operating Temperature: -55°C ~ 155°C; Package / Case: 0603 (1608 Metric); Supplier Device Package: 0603; Size / Dimension: 0.063" L x 0.031" W (1.60mm x 0.80mm); Height - Seated (Max): 0.022" (0.55mm); Failure Rate: -; ComponentLink1URL: http://www.yageo.com/documents/recent/PYu-RC_Group_51_RoHS_L_10.pdf; ComponentLink1Description: http://www.yageo.com/documents/recent/PYu-RC_Group_51_RoHS_L_10.pdf; Supplier Part Number 1: 311-1.10KHRCT-ND
footprint R 0603/1608
pins: 1, 2

## RC0603FR-071K5L
designator R?, comment 1.5K 1% 1/10W 0603
RES SMD 1.5K OHM 1% 1/10W 0603; Manufacturer: Yageo; Manufacturer Part Number: RC0603FR-071K5L; Power (Watts): 0.1W, 1/10W; Temperature Coefficient: ±100ppm/°C; Supplier 1: Digi-Key; RoHS: RoHS Compliant; Category: Resistors; Stock 1: 7415979; Pricing 1: 1=0.08, 10=0.019, 100=0.0076, 1000=0.00344, 2500=0.00298 (GBP); Packaging: Cut Tape (CT); Part Status: Active; Tolerance: ±1%; Composition: Thick Film; Features: Moisture Resistant; Operating Temperature: -55°C ~ 155°C; Package / Case: 0603 (1608 Metric); Supplier Device Package: 0603; Size / Dimension: 0.063" L x 0.031" W (1.60mm x 0.80mm); Height - Seated (Max): 0.022" (0.55mm); Failure Rate: -; ComponentLink1URL: http://www.yageo.com/documents/recent/PYu-RC_Group_51_RoHS_L_10.pdf; ComponentLink1Description: http://www.yageo.com/documents/recent/PYu-RC_Group_51_RoHS_L_10.pdf; Supplier Part Number 1: 311-1.50KHRCT-ND
footprint R 0603/1608
pins: 1, 2

## RC0603FR-071K13L
designator R?, comment 1.13K 1% 1/10W 0603
RES SMD 1.13K OHM 1% 1/10W 0603; Manufacturer: Yageo; Manufacturer Part Number: RC0603FR-071K13L; Power (Watts): 0.1W, 1/10W; Temperature Coefficient: ±100ppm/°C; Supplier 1: Digi-Key; RoHS: RoHS Compliant; Category: Resistors; Stock 1: 725743; Pricing 1: 1=0.08, 10=0.019, 100=0.0076, 1000=0.00344, 2500=0.00298 (GBP); Packaging: Cut Tape (CT); Part Status: Active; Tolerance: ±1%; Composition: Thick Film; Features: Moisture Resistant; Operating Temperature: -55°C ~ 155°C; Package / Case: 0603 (1608 Metric); Supplier Device Package: 0603; Size / Dimension: 0.063" L x 0.031" W (1.60mm x 0.80mm); Height - Seated (Max): 0.022" (0.55mm); Failure Rate: -; ComponentLink1URL: http://www.yageo.com/documents/recent/PYu-RC_Group_51_RoHS_L_10.pdf; ComponentLink1Description: http://www.yageo.com/documents/recent/PYu-RC_Group_51_RoHS_L_10.pdf; Supplier Part Number 1: 311-1.13KHRCT-ND
footprint R 0603/1608
pins: 1, 2

## RC0603FR-071KL
designator R?, comment 1K 1% 1/10W 0603
RES SMD 1K OHM 1% 1/10W 0603; Manufacturer: Yageo; Manufacturer Part Number: RC0603FR-071KL; Power (Watts): 0.1W, 1/10W; Temperature Coefficient: ±100ppm/°C; Supplier 1: Digi-Key; RoHS: RoHS Compliant; Category: Resistors; Stock 1: 59900061; Pricing 1: 1=0.08, 10=0.019, 100=0.0076, 1000=0.00344, 2500=0.00298 (GBP); Packaging: Cut Tape (CT); Part Status: Active; Tolerance: ±1%; Composition: Thick Film; Features: Moisture Resistant; Operating Temperature: -55°C ~ 155°C; Package / Case: 0603 (1608 Metric); Supplier Device Package: 0603; Size / Dimension: 0.063" L x 0.031" W (1.60mm x 0.80mm); Height - Seated (Max): 0.022" (0.55mm); Failure Rate: -; ComponentLink1URL: http://www.yageo.com/documents/recent/PYu-RC_Group_51_RoHS_L_10.pdf; ComponentLink1Description: http://www.yageo.com/documents/recent/PYu-RC_Group_51_RoHS_L_10.pdf; Supplier Part Number 1: 311-1.00KHRCT-ND
footprint R 0603/1608
pins: 1, 2

## RC0603FR-071ML
designator R?, comment 1M 1% 1/10W 0603
RES SMD 1M OHM 1% 1/10W 0603; Manufacturer: Yageo; Manufacturer Part Number: RC0603FR-071ML; Power (Watts): 0.1W, 1/10W; Temperature Coefficient: ±100ppm/°C; Supplier 1: Digi-Key; RoHS: RoHS Compliant; Category: Resistors; Stock 1: 12700664; Pricing 1: 1=0.08, 10=0.019, 100=0.0076, 1000=0.00344, 2500=0.00298 (GBP); Packaging: Cut Tape (CT); Part Status: Active; Tolerance: ±1%; Composition: Thick Film; Features: Moisture Resistant; Operating Temperature: -55°C ~ 155°C; Package / Case: 0603 (1608 Metric); Supplier Device Package: 0603; Size / Dimension: 0.063" L x 0.031" W (1.60mm x 0.80mm); Height - Seated (Max): 0.022" (0.55mm); Failure Rate: -; ComponentLink1URL: http://www.yageo.com/documents/recent/PYu-RC_Group_51_RoHS_L_10.pdf; ComponentLink1Description: http://www.yageo.com/documents/recent/PYu-RC_Group_51_RoHS_L_10.pdf; Supplier Part Number 1: 311-1.00MHRCT-ND
footprint R 0603/1608
pins: 1, 2

## RC0603FR-074K7L
designator R?, comment 4.7K 1% 1/10W 0603
RES SMD 4.7K OHM 1% 1/10W 0603; Supplier 1: Digi-Key; Supplier Part Number 1: 311-4.70KHRDKR-ND
footprint R 0603/1608
pins: 1, 2

## RC0603FR-0710KL
designator R?, comment 10K 1% 1/10W 0603
RES SMD 10K OHM 1% 1/10W 0603; Manufacturer: Yageo; Manufacturer Part Number: RC0603FR-0710KL; Power (Watts): 0.1W, 1/10W; Temperature Coefficient: ±100ppm/°C; Supplier 1: Digi-Key; RoHS: RoHS Compliant; Category: Resistors; Stock 1: 146748221; Pricing 1: 1=0.08, 10=0.019, 100=0.0076, 1000=0.00344, 2500=0.00298 (GBP); Packaging: Cut Tape (CT); Part Status: Active; Tolerance: ±1%; Composition: Thick Film; Features: Moisture Resistant; Operating Temperature: -55°C ~ 155°C; Package / Case: 0603 (1608 Metric); Supplier Device Package: 0603; Size / Dimension: 0.063" L x 0.031" W (1.60mm x 0.80mm); Height - Seated (Max): 0.022" (0.55mm); Failure Rate: -; ComponentLink1URL: http://www.yageo.com/documents/recent/PYu-RC_Group_51_RoHS_L_10.pdf; ComponentLink1Description: http://www.yageo.com/documents/recent/PYu-RC_Group_51_RoHS_L_10.pdf; Supplier Part Number 1: 311-10.0KHRCT-ND
footprint R 0603/1608
pins: 1, 2

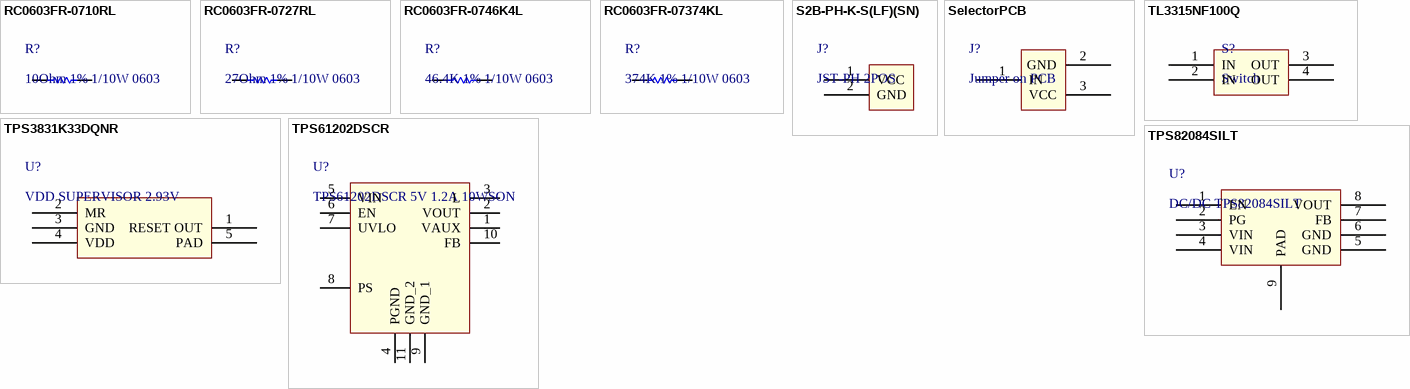
[diagram p1: symbols RC0603FR-0710RL to TPS82084SILT]

## RC0603FR-0710RL
designator R?, comment 10Ohm 1% 1/10W 0603
RES SMD 10 OHM 1% 1/10W 0603; Manufacturer: Yageo; Manufacturer Part Number: RC0603FR-0710RL; Power (Watts): 0.1W, 1/10W; Temperature Coefficient: ±200ppm/°C; Supplier 1: Digi-Key; RoHS: RoHS Compliant; Category: Resistors; Stock 1: 15909372; Pricing 1: 1=0.08, 10=0.038, 100=0.0153, 1000=0.00689, 2500=0.00598 (GBP); Packaging: Cut Tape (CT); Part Status: Active; Tolerance: ±1%; Composition: Thick Film; Features: Moisture Resistant; Operating Temperature: -55°C ~ 155°C; Package / Case: 0603 (1608 Metric); Supplier Device Package: 0603; Size / Dimension: 0.063" L x 0.031" W (1.60mm x 0.80mm); Height - Seated (Max): 0.022" (0.55mm); Failure Rate: -; ComponentLink1URL: http://www.yageo.com/documents/recent/PYu-RC_Group_51_RoHS_L_10.pdf; ComponentLink1Description: http://www.yageo.com/documents/recent/PYu-RC_Group_51_RoHS_L_10.pdf; Supplier Part Number 1: 311-10.0HRCT-ND
footprint R 0603/1608
pins: 1, 2

## RC0603FR-0727RL
designator R?, comment 27Ohm 1% 1/10W 0603
RES SMD 27 OHM 1% 1/10W 0603; Manufacturer: Yageo; Manufacturer Part Number: RC0603FR-0727RL; Power (Watts): 0.1W, 1/10W; Temperature Coefficient: ±100ppm/°C; Supplier 1: Digi-Key; RoHS: RoHS Compliant; Category: Resistors; Stock 1: 2509685; Pricing 1: 1=0.08, 10=0.019, 100=0.0076, 1000=0.00344, 2500=0.00298 (GBP); Packaging: Cut Tape (CT); Part Status: Active; Tolerance: ±1%; Composition: Thick Film; Features: Moisture Resistant; Operating Temperature: -55°C ~ 155°C; Package / Case: 0603 (1608 Metric); Supplier Device Package: 0603; Size / Dimension: 0.063" L x 0.031" W (1.60mm x 0.80mm); Height - Seated (Max): 0.022" (0.55mm); Failure Rate: -; ComponentLink1URL: http://www.yageo.com/documents/recent/PYu-RC_Group_51_RoHS_L_10.pdf; ComponentLink1Description: http://www.yageo.com/documents/recent/PYu-RC_Group_51_RoHS_L_10.pdf; Supplier Part Number 1: 311-27.0HRCT-ND
footprint R 0603/1608
pins: 1, 2

## RC0603FR-0746K4L
designator R?, comment 46.4K 1% 1/10W 0603
RES SMD 46.4K OHM 1% 1/10W 0603; Manufacturer: Yageo; Manufacturer Part Number: RC0603FR-0746K4L; Power (Watts): 0.1W, 1/10W; Temperature Coefficient: ±100ppm/°C; Supplier 1: Digi-Key; RoHS: RoHS Compliant; Category: Resistors; Stock 1: 1158864; Pricing 1: 1=0.08, 10=0.019, 100=0.0076, 1000=0.00344, 2500=0.00298 (GBP); Packaging: Cut Tape (CT); Part Status: Active; Tolerance: ±1%; Composition: Thick Film; Features: Moisture Resistant; Operating Temperature: -55°C ~ 155°C; Package / Case: 0603 (1608 Metric); Supplier Device Package: 0603; Size / Dimension: 0.063" L x 0.031" W (1.60mm x 0.80mm); Height - Seated (Max): 0.022" (0.55mm); Failure Rate: -; ComponentLink1URL: http://www.yageo.com/documents/recent/PYu-RC_Group_51_RoHS_L_10.pdf; ComponentLink1Description: http://www.yageo.com/documents/recent/PYu-RC_Group_51_RoHS_L_10.pdf; Supplier Part Number 1: 311-46.4KHRCT-ND
footprint R 0603/1608
pins: 1, 2

## RC0603FR-07374KL
designator R?, comment 374K 1% 1/10W 0603
RES SMD 374K OHM 1% 1/10W 0603; Manufacturer: Yageo; Manufacturer Part Number: RC0603FR-07374KL; Power (Watts): 0.1W, 1/10W; Temperature Coefficient: ±100ppm/°C; Supplier 1: Digi-Key; RoHS: RoHS Compliant; Category: Resistors; Stock 1: 380876; Pricing 1: 1=0.08, 10=0.019, 100=0.0076, 1000=0.00344, 2500=0.00298 (GBP); Packaging: Cut Tape (CT); Part Status: Active; Tolerance: ±1%; Composition: Thick Film; Features: Moisture Resistant; Operating Temperature: -55°C ~ 155°C; Package / Case: 0603 (1608 Metric); Supplier Device Package: 0603; Size / Dimension: 0.063" L x 0.031" W (1.60mm x 0.80mm); Height - Seated (Max): 0.022" (0.55mm); Failure Rate: -; ComponentLink1URL: http://www.yageo.com/documents/recent/PYu-RC_Group_51_RoHS_L_10.pdf; ComponentLink1Description: http://www.yageo.com/documents/recent/PYu-RC_Group_51_RoHS_L_10.pdf; Supplier Part Number 1: 311-374KHRCT-ND
footprint R 0603/1608
pins: 1, 2

## S2B-PH-K-S(LF)(SN)
designator J?, comment JST-PH 2POS
CONN HEADER R/A 2POS 2MM; Manufacturer: JST Sales America Inc.; Manufacturer Part Number: S2B-PH-K-S(LF)(SN); Pitch - Mating: 0.079" (2.00mm); Number of Positions: 2; Number of Positions Loaded: All; Style: Board to Cable/Wire; Shrouding: Shrouded - 4 Wall; Contact Length - Mating: 0.130" (3.30mm); Contact Length - Post: 0.134" (3.40mm); Material Flammability Rating: UL94 V-0; Current Rating: 2A; Voltage Rating: 100V; Supplier 1: Digi-Key; RoHS: RoHS Compliant; Category: Connectors, Interconnects; Stock 1: 201097; Pricing 1: 1=0.13, 10=0.127, 100=0.078, 500=0.06454, 1000=0.05647, 5000=0.0484, 10000=0.04706 (GBP); Packaging: Bulk; Part Status: Active; Connector Type: Header; Contact Type: Male Pin; Number of Rows: 1; Row Spacing - Mating: -; Mounting Type: Through Hole, Right Angle; Termination: Press-Fit, Solder; Fastening Type: Detent Lock; Overall Contact Length: -; Insulation Height: 0.189" (4.80mm); Contact Shape: Square; Contact Finish - Mating: Tin; Contact Finish Thickness - Mating: -; Contact Finish - Post: Tin; Contact Material: Brass; Insulation Material: Polyamide (PA66), Nylon 6/6; Features: -; Operating Temperature: -25°C ~ 85°C; Ingress Protection: -; Insulation Color: Natural; Mated Stacking Heights: -; Contact Finish Thickness - Post: -; Applications: -; ComponentLink1URL: http://www.jst-mfg.com/product/pdf/eng/ePH.pdf; ComponentLink1Description: http://www.jst-mfg.com/product/pdf/eng/ePH.pdf; Supplier Part Number 1: 455-1719-ND
footprint S2B-PH
pins: 1 VCC, 2 GND

## SelectorPCB
designator J?, comment Jumper on PCB
footprint 3:1 PCB selector
pins: 1 IN, 2 GND, 3 VCC

## TL3315NF100Q
designator S?, comment Switch
SWITCH TACTILE SPST-NO 0.05A 15V; Manufacturer: E-Switch; Manufacturer Part Number: TL3315NF100Q; Switch Function: Off-Mom; Contact Rating @ Voltage: 0.05A @ 15VDC; Actuator Type: Snap Dome; Actuator Height off PCB, Vertical: 0.55mm; Actuator Orientation: Top Actuated; Outline: 4.50mm x 4.50mm; Illumination: Non-Illuminated; Operating Force: 100gf; Switch Travel: 0.20mm; Mechanical Life: 1,000,000 Cycles; Supplier 1: Digi-Key; RoHS: RoHS Compliant; Category: Switches; Stock 1: 1278214; Pricing 1: 1=0.16, 10=0.153, 25=0.1484, 50=0.1428, 100=0.135, 250=0.127, 500=0.12172, 1000=0.09261 (EUR); Packaging: Cut Tape (CT); Part Status: Active; Circuit: SPST-NO; Mounting Type: Surface Mount; Actuator Length, Right Angle: -; Termination Style: Gull Wing; Illumination Type, Color: -; Illumination Voltage (Nominal): -; Ingress Protection: -; Features: -; Actuator Material: -; Operating Temperature: -20°C ~ 70°C; ComponentLink1URL: http://spec_sheets.e-switch.com/specs/P010336.pdf; ComponentLink1Description: http://spec_sheets.e-switch.com/specs/P010336.pdf; Supplier Part Number 1: EG4620CT-ND
footprint Button
pins: 1 IN, 2 IN, 3 OUT, 4 OUT

## TPS3831K33DQNR
designator U?, comment VDD SUPERVISOR 2.93V
IC LP SUPERVISRY CIRCUIT 4X2SON; Manufacturer: Texas Instruments; Manufacturer Part Number: TPS3831K33DQNR; Output: Push-Pull, Totem Pole; Reset: Active Low; Reset Timeout: 120 ms Minimum; Supplier 1: Digi-Key; RoHS: RoHS Compliant; Category: Integrated Circuits (ICs); Stock 1: 43493; Pricing 1: 1=0.71, 10=0.631, 100=0.4921, 500=0.4065, 1000=0.32092 (GBP); Packaging: Cut Tape (CT); Part Status: Active; Type: Simple Reset/Power-On Reset; Voltage - Threshold: 2.93V; Operating Temperature: -40°C ~ 85°C (TA); Mounting Type: Surface Mount; Package / Case: 4-XDFN Exposed Pad; Supplier Device Package: 4-X2SON (1x1); ComponentLink1URL: http://www.ti.com/lit/ds/symlink/tps3831.pdf; ComponentLink1Description: http://www.ti.com/lit/ds/symlink/tps3831.pdf; Supplier Part Number 1: 296-40752-1-ND
footprint X2SON
pins: 1 RESET OUT, 2 MR, 3 GND, 4 VDD, 5 PAD

## TPS61202DSCR
designator U?, comment TPS61202DSCR 5V 1.2A 10WSON
IC REG BOOST 5V 1.2A SYNC 10WSON; Manufacturer: Texas Instruments; Function: Step-Up; Output Configuration: Positive; Output Type: Fixed; Number of Outputs: 1; Voltage - Input (Min): 0.3V; Voltage - Input (Max): 5.5V; Current - Output: 1.2A (Switch); Frequency - Switching: 1.25MHz ~ 1.65MHz; Synchronous Rectifier: Yes; Supplier 1: Digi-Key; Manufacturer Part Number: TPS61202DSCR; RoHS: RoHS Compliant; Category: Integrated Circuits (ICs); Stock 1: 2196; Pricing 1: 1=1.9, 10=1.701, 100=1.3671, 500=1.12322, 1000=0.93067 (GBP); Packaging: Cut Tape (CT); Part Status: Active; Topology: Boost; Voltage - Output (Min/Fixed): 5V; Voltage - Output (Max): -; Operating Temperature: -40°C ~ 85°C (TA); Mounting Type: Surface Mount; Package / Case: 10-WFDFN Exposed Pad; Supplier Device Package: 10-WSON (3x3); Base Part Number: TPS61202; ComponentLink1URL: http://www.ti.com/lit/ds/symlink/tps61202.pdf; ComponentLink1Description: http://www.ti.com/lit/ds/symlink/tps61202.pdf; Supplier Part Number 1: 296-24865-1-ND
footprint 10-pin WSON (8 PIN POWER PAD TEXAS)
pins: 1 VAUX, 2 VOUT, 3 L, 4 PGND, 5 VIN, 6 EN, 7 UVLO, 8 PS, 9 GND_1, 10 FB, 11 GND_2